# Altium schematic symbol library V三极管.SchLib: 4 symbols
Pins are listed as number, name and electrical type; pins without a type are passive.

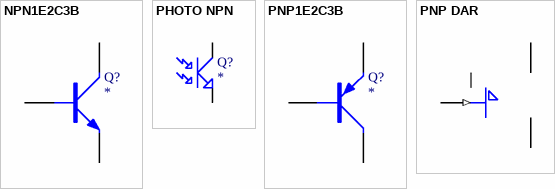
[diagram p0: symbols NPN1E2C3B to PNP DAR]

## NPN1E2C3B
designator Q?
?
footprint TO92A
footprint TO92B
pins: 1 E, 2 C, 3 B

## PHOTO NPN
designator Q?
NPN Phototransistor
footprint TO92A
pins: 1 C, 2 E

## PNP1E2C3B
designator Q?
?
footprint TO92A
footprint TO92B
pins: 1 E, 2 C, 3 B

## PNP DAR
designator ?
PNP Darlington Transistor
pins: 1 B (in), 3 C, E 2